# Altium footprint library CONECTOR_3PIN.PcbLib: 1 footprints
Each footprint in its own frame and in the unit in brackets; x right, y up, seen from the top. Pads: shape width x height; smd on the part's side, far side on the other; paste and mask are expansions set on the pad; w line width, h text height; cw(c..) or ccw(c..) is an arc to the next point about the centre after c.
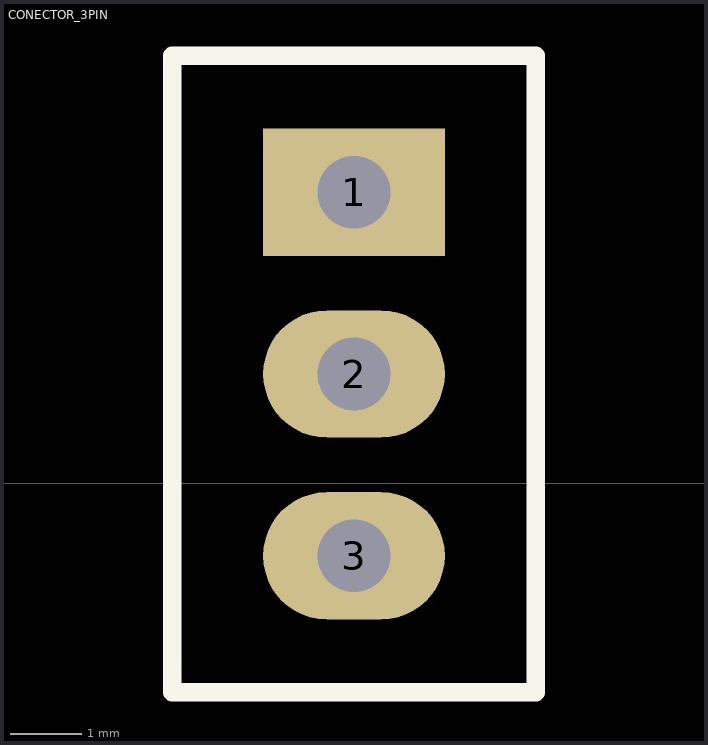
[diagram p0: the footprint, top view; thin cyan lines are the x and y axes]

## CONECTOR_3PIN [mil]
pads (3):
  rect 100x70 hole 40: 1(350,160)
  oval 100x70 hole 40: 2(350,60) 3(350,-40)
Top Overlay:
  lines w10: 250,-115 250,235 450,235 450,-115 250,-115